# Altium integrated library MyIntLib.IntLib: 4 symbols
Pins are listed as number, name and electrical type; pins without a type are passive.

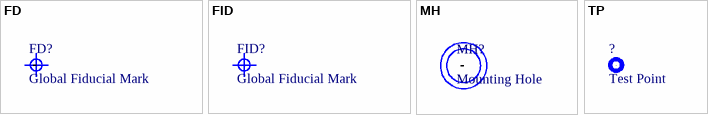
[diagram p0: symbols FD to TP]

## FD
designator FD?, comment Global Fiducial Mark
footprint FIDUCIAL_1.3MM
footprint FIDUCIAL_1.0MM
footprint FIDUCIAL_0.8MM
pins: 0

## FID
designator FID?, comment Global Fiducial Mark
footprint FIDUCIAL_0.8MM
footprint FIDUCIAL_1.0MM
footprint FIDUCIAL_1.3MM

## MH
designator MH?, comment Mounting Hole
footprint MOUNTING_HOLE_3MM
pins: 0

## TP
designator ?, comment Test Point
footprint TEST_POINT
pins: 1